# Altium footprint library PCB - LEADLESS - DFN - MAXIM TDFN-8 T822CN+1.PCBLIB: 1 footprints
Each footprint in its own frame and in the unit in brackets; x right, y up, seen from the top. Pads: shape width x height; smd on the part's side, far side on the other; paste and mask are expansions set on the pad; w line width, h text height; cw(c..) or ccw(c..) is an arc to the next point about the centre after c.
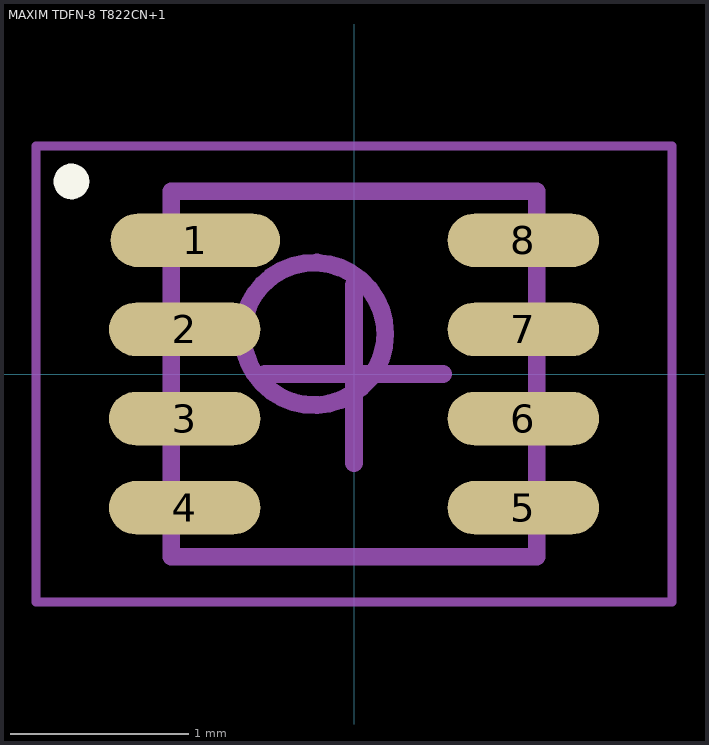
[diagram p0: the footprint, top view; thin cyan lines are the x and y axes]

## MAXIM TDFN-8 T822CN+1 [mm] "TDFN, 8-Leads, Body 2,00x2,00mm, Pitch 0,50mm, IPC Medium Density"
height 0.8
pads (8):
  oval 0.95x0.3 smd: 1(-0.89,0.75)
  oval 0.85x0.3 smd: 2(-0.95,0.25) 3(-0.95,-0.25) 4(-0.95,-0.75) 5(0.95,-0.75) 6(0.95,-0.25) 7(0.95,0.25) 8(0.95,0.75)
Top Overlay:
  circle w0.1: c-1.585,1.08 r0.05
Top Courtyard:
  lines w0.05: -1.785,-1.28 -1.785,1.28 1.785,1.28 1.785,-1.28 -1.785,-1.28
Bottom Courtyard:
  lines w0.05: -1.785,-1.28 -1.785,1.28 1.785,1.28 1.785,-1.28 -1.785,-1.28
Mechanical 13:
  circle w0.1: c-0.225,0.225 r0.4
  lines w0.1: -1.025,-1.025 -1.025,1.025 1.025,1.025 1.025,-1.025 -1.025,-1.025
Mechanical 15:
  lines w0.05: -1.785,-1.28 -1.785,1.28 1.785,1.28 1.785,-1.28 -1.785,-1.28
  lines w0.1: -0.5,0 0.5,0 ; 0,-0.5 0,0.5
3D body "QFN50P200X200X80-8N.step": height 0.8, standoff 0, extent -1.026,-1.025 1.026,1.025